# EAGLE library part SPI.RAM (library LinnesLab-DigitalIC)
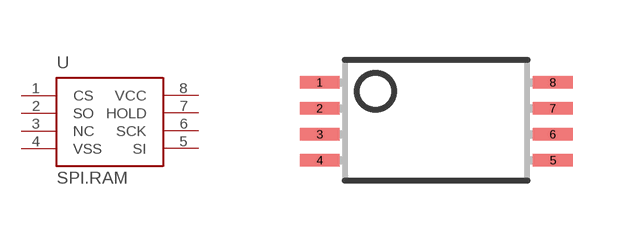
[diagram p5: symbol with the pads of 8-TSSOP; footprint 8-TSSOP]

Designator prefix U

## SPI.RAM  [8-TSSOP]
1  CS
2  SO
3  NC
4  VSS
5  SI
6  SCK
7  HOLD
8  VCC

## Footprint 8-TSSOP (pad centres in mm)
smd 0.991 x 0.305: 1 -2.918,0.95; 2 -2.918,0.3; 3 -2.918,-0.35; 4 -2.918,-1; 5 2.918,-1; 6 2.918,-0.35; 7 2.918,0.3; 8 2.918,0.95